# Altium footprint library PushbuttonV2.PcbLib: 1 footprints
Each footprint in its own frame and in the unit in brackets; x right, y up, seen from the top. Pads: shape width x height; smd on the part's side, far side on the other; paste and mask are expansions set on the pad; w line width, h text height; cw(c..) or ccw(c..) is an arc to the next point about the centre after c.
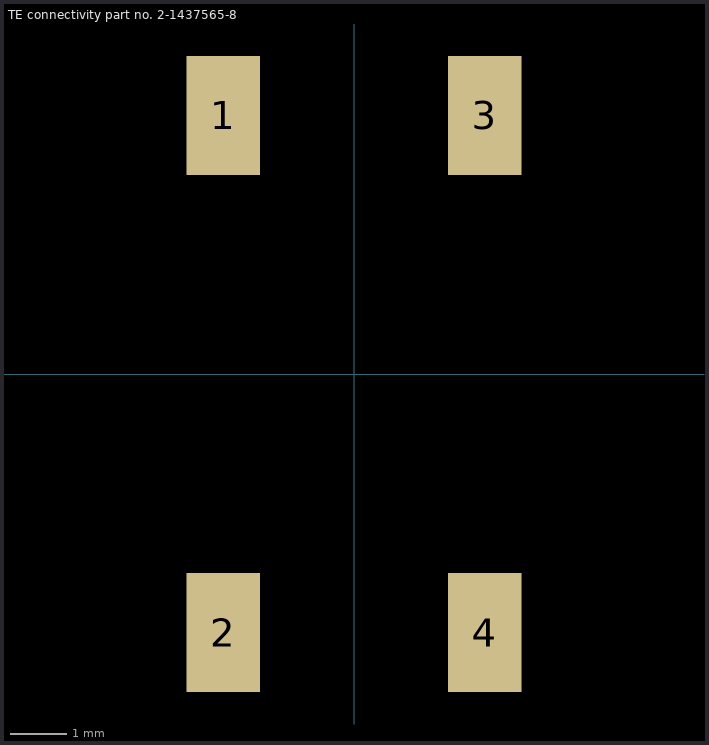
[diagram p0: the footprint, top view; thin cyan lines are the x and y axes]

## TE connectivity part no. 2-1437565-8 [mm] "Tactile switch (pushbutton)"
pads (4):
  rect 1.3x2.1 smd: 1(-2.3,4.55) 2(-2.3,-4.55) 3(2.3,4.55) 4(2.3,-4.55)
3D body "User Library-KFC-A06-HA-4_3.STEP": height 4.3, standoff 0, extent -3.05,-4.5 2.95,4.5